# Altium schematic symbol library Реле R2G1CH012.SchLib: 1 symbol
Pins are listed as number, name and electrical type; pins without a type are passive.

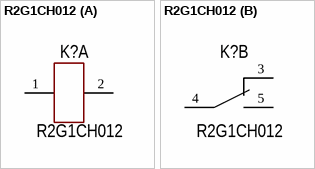
[diagram p0: symbol R2G1CH012]

## R2G1CH012
designator K?  PartNumber: R2G1CH012
Manufacturer: Omron; ValueManufacturerPartNumber: Electromechanics relay, 3VDC, 125VAC, 2A, 2NO+2NC, -40...+85°C; TypeRelay: Electromechanics relay; VoltageMax: 125VAC; VoltageControlCoil: 3VDC; MaxCurrent: 2A; Package: 2NO+2NC; HelpURL: https://www.digikey.com/product-detail/en/omron-electronics-inc-emc-div/G5V-2-DC3/Z2185-ND/369042; Temperature: -40...+85°C
footprint R2G1CH012
part A pins: 1, 2
part B pins: 3, 4, 5